# Altium integrated library IPXconnector.IntLib: 1 symbol
Pins are listed as number, name and electrical type; pins without a type are passive.

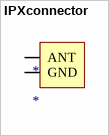
[diagram p0: symbol IPXconnector]

## IPXconnector
designator *
footprint IPXconnector
pins: 1 ANT, 2 GND